# Altium schematic symbol library CAR_Amplifier.SchLib: 10 symbols
Pins are listed as number, name and electrical type; pins without a type are passive.

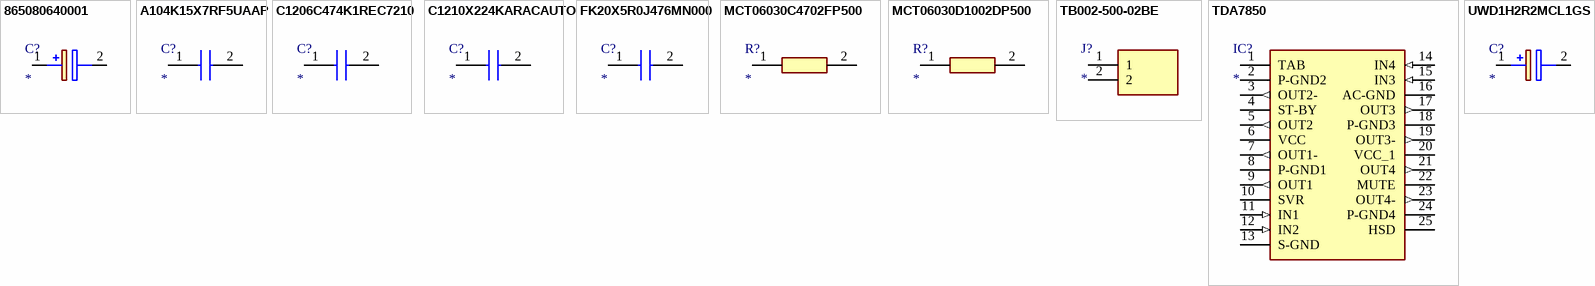
[diagram p0: symbols 865080640001 to UWD1H2R2MCL1GS]

## 865080640001
designator C?
Capacitor Polarised; Manufacturer_Name: Wurth Elektronik; Manufacturer_Part_Number: 865080640001; Datasheet Link: https://www.we-online.com/catalog/datasheet/865080640001.pdf; Height: 5.5mm; Mouser Part Number: 710-865080640001; Mouser Price/Stock: https://www.mouser.co.uk/ProductDetail/Wurth-Elektronik/865080640001?qs=0KOYDY2FL28T3O9R7owGdg%3D%3D
footprint CAPAE430X550N
pins: 1 +, 2 -

## A104K15X7RF5UAAP
designator C?
Capacitor; Manufacturer_Name: Vishay; Manufacturer_Part_Number: A104K15X7RF5UAAP; Datasheet Link: https://www.vishay.com/docs/45249/apseries.pdf; Mouser Part Number: 594-A104K15X7RF5UAAP; Mouser Price/Stock: https://www.mouser.co.uk/ProductDetail/Vishay-BC-Components/A104K15X7RF5UAAP?qs=DPoM0jnrROUJ7499VET5BQ%3D%3D
footprint CAPPA1420W55L380D260
pins: 1 +, 2 -

## C1206C474K1REC7210
designator C?
Capacitor; Manufacturer_Name: KEMET; Manufacturer_Part_Number: C1206C474K1REC7210; Datasheet Link: https://content.kemet.com/datasheets/KEM_C1090_X7R_ESD.pdf; Mouser Part Number: 80-C1206C474K1RECLR; Mouser Price/Stock: https://www.mouser.co.uk/ProductDetail/KEMET/C1206C474K1REC7210?qs=55YtniHzbhCc12xecGnQhw%3D%3D
footprint C1206
pins: 1, 2

## C1210X224KARACAUTO
designator C?
Capacitor; Manufacturer_Name: KEMET; Manufacturer_Part_Number: C1210X224KARACAUTO; Datasheet Link: https://content.kemet.com/datasheets/KEM_C1078_X7R_FT-CAP_AUTO_SMD.pdf; Mouser Part Number: 80-C1210X224KARAUTO; Mouser Price/Stock: https://www.mouser.co.uk/ProductDetail/KEMET/C1210X224KARACAUTO?qs=wnTfsH77Xs4S7Vc0Z3FaCA%3D%3D
footprint C1210_FT
pins: 1, 2

## FK20X5R0J476MN000
designator C?
Capacitor; Manufacturer_Name: TDK; Manufacturer_Part_Number: FK20X5R0J476MN000; Datasheet Link: https://product.tdk.com/system/files/dam/doc/product/capacitor/ceramic/lead-mlcc/catalog/leadmlcc_conventional_fk_en.pdf; Height: 7mm
footprint FK20
pins: 1, 2

## MCT06030C4702FP500
designator R?
Resistor; Manufacturer_Name: Vishay; Manufacturer_Part_Number: MCT06030C4702FP500; Datasheet Link: http://www.vishay.com/docs/28705/mcx0x0xpro.pdf; Height: 0.55mm; Mouser Part Number: 594-MCT06030C4702FP5; Mouser Price/Stock: https://www.mouser.co.uk/ProductDetail/Vishay-Beyschlag/MCT06030C4702FP500?qs=7ZE6F4QMOBa8uKZSFemjDw%3D%3D
footprint RESC1608X55N
pins: 1, 2

## MCT06030D1002DP500
designator R?
Resistor; Manufacturer_Name: Vishay; Manufacturer_Part_Number: MCT06030D1002DP500; Datasheet Link: http://www.vishay.com/docs/28705/mcx0x0xpro.pdf; Height: 0.55mm; Mouser Part Number: 594-MCT06030D1002DP5; Mouser Price/Stock: https://www.mouser.co.uk/ProductDetail/Vishay-Beyschlag/MCT06030D1002DP500?qs=2UBm2ZpWbY4LmLEyOhD%252Bvw%3D%3D; Arrow Part Number: MCT06030D1002DP500; Arrow Price/Stock: https://www.arrow.com/en/products/mct06030d1002dp500/vishay?region=nac
footprint RESC1608X55N
pins: 1, 2

## TB002-500-02BE
designator J?
Connector; Manufacturer_Name: CUI Devices; Manufacturer_Part_Number: TB002-500-02BE; Datasheet Link: https://eu.mouser.com/datasheet/2/670/tb002_500-1550579.pdf; Height: 10.4mm; Mouser Part Number: 490-TB002-500-02BE; Mouser Price/Stock: https://www.mouser.co.uk/ProductDetail/CUI-Devices/TB002-500-02BE?qs=vLWxofP3U2x9716kcgva%2Fw%3D%3D; Arrow Part Number: TB002-500-02BE; Arrow Price/Stock: https://www.arrow.com/en/products/tb002-500-02be/cui-devices?region=nac
footprint TB00250002BE
pins: 1, 2

## TDA7850
designator IC?
Integrated Circuit; Manufacturer_Name: STMicroelectronics; Manufacturer_Part_Number: TDA7850; Datasheet Link: http://www.st.com/web/en/resource/technical/document/datasheet/CD00145702.pdf; Height: 4.65mm; Mouser Part Number: 511-TDA7850; Mouser Price/Stock: https://www.mouser.co.uk/ProductDetail/STMicroelectronics/TDA7850?qs=VJaATVMq%252BXpapg7tNDopRA%3D%3D; Arrow Part Number: TDA7850; Arrow Price/Stock: https://www.arrow.com/en/products/tda7850/stmicroelectronics?region=nac
footprint TO100P465X2910X1977-25P
pins: 1 TAB, 2 P-GND2 (power), 3 OUT2- (out), 4 ST-BY, 5 OUT2 (out), 6 VCC (power), 7 OUT1- (out), 8 P-GND1 (power), 9 OUT1 (out), 10 SVR, 11 IN1 (in), 12 IN2 (in), 13 S-GND (power), 14 IN4 (in), 15 IN3 (in), 16 AC-GND (power), 17 OUT3 (out), 18 P-GND3 (power), 19 OUT3- (out), 20 VCC_1 (power), 21 OUT4 (out), 22 MUTE, 23 OUT4- (out), 24 P-GND4 (power), 25 HSD

## UWD1H2R2MCL1GS
designator C?
Capacitor Polarised; Manufacturer_Name: Nichicon; Manufacturer_Part_Number: UWD1H2R2MCL1GS; Datasheet Link: https://datasheet.datasheetarchive.com/originals/dk/DKDS-9/176768.pdf; Height: 6.1mm
footprint CAPAE420X610N
pins: 1 +, 2 -